# Altium footprint library MicroSMD_50P_V.PcbLib: 85 footprints (part 3 of 7)
Each footprint in its own frame and in the unit in brackets; x right, y up, seen from the top. Pads: shape width x height; smd on the part's side, far side on the other; paste and mask are expansions set on the pad; w line width, h text height; cw(c..) or ccw(c..) is an arc to the next point about the centre after c.
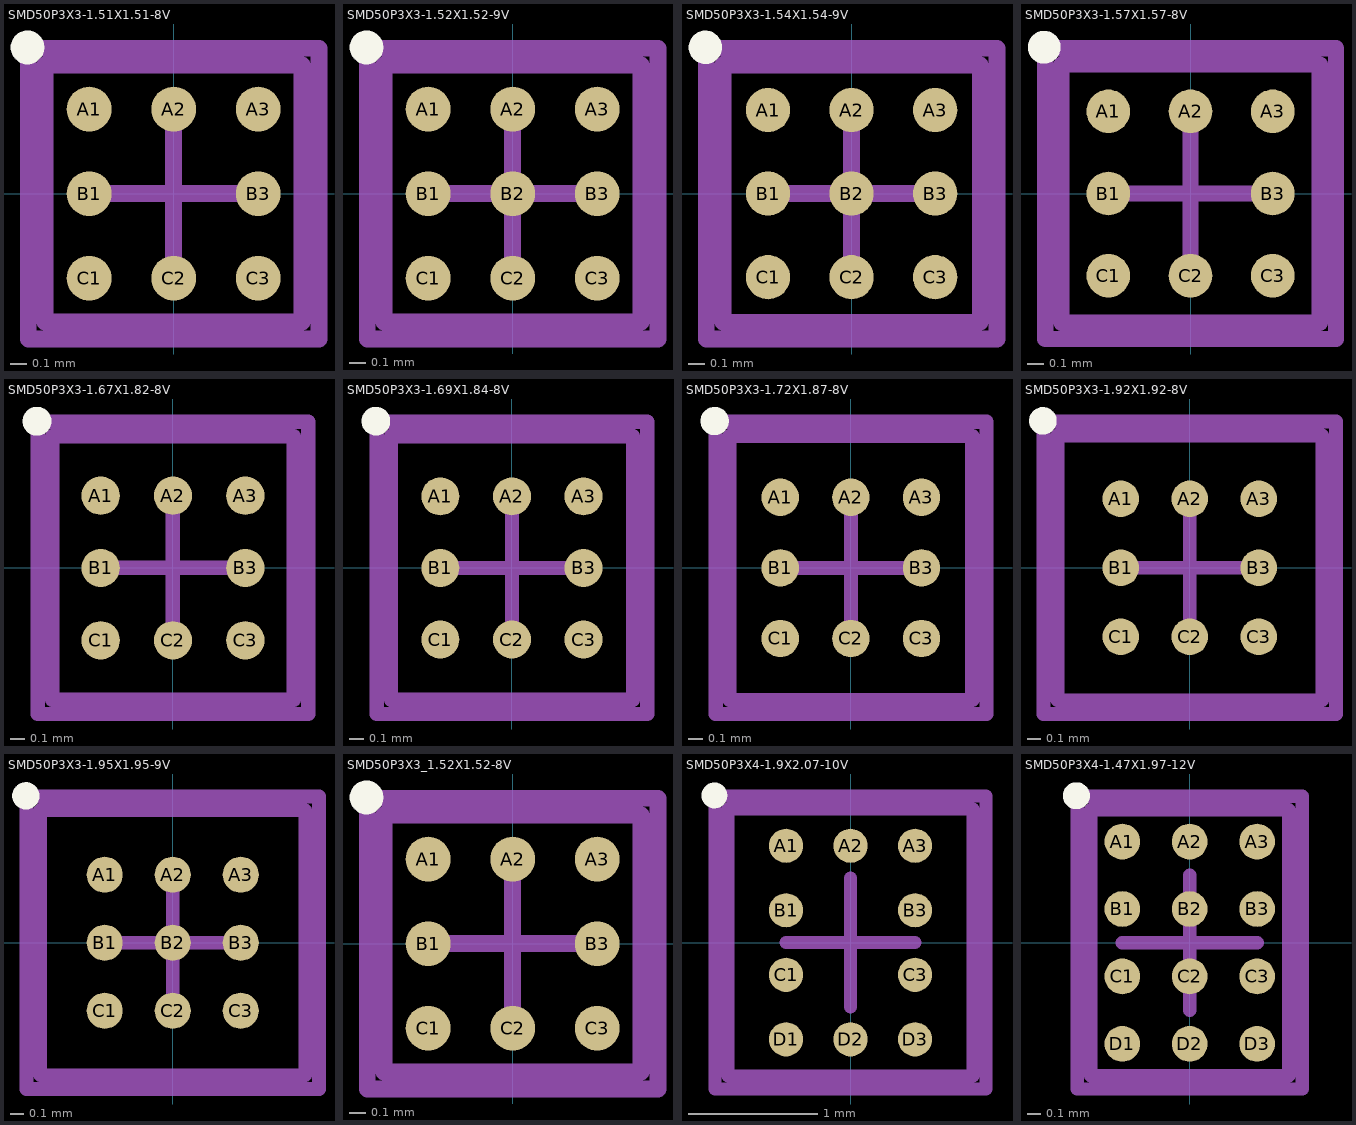
[diagram p2: the footprints below, top view; thin cyan lines are the x and y axes]

## SMD50P3X3-1.51X1.51-8V [mm] "Micro SMD, 8-Leads, Body 1.51x1.51mm, Pitch 0.5mm, NSC Recommended"
height 1.1
pads (8):
  round 0.265 smd paste-0.132 mask+0.05: A1(-0.5,0.5) A2(0,0.5) A3(0.5,0.5) B1(-0.5,0) B3(0.5,0) C1(-0.5,-0.5) C2(0,-0.5) C3(0.5,-0.5)
Top Overlay:
  circle w0.1: c-0.865,0.865 r0.05
Top Paste:
  circle w0.05: c-0.075,0.6 r0.025
  circle w0.05: c0.075,0.45 r0.025
  circle w0.05: c0.075,0.6 r0.025
  circle w0.05: c-0.075,0.45 r0.025
  circle w0.05: c0.6,0.075 r0.025
  circle w0.05: c0.45,-0.075 r0.025
  circle w0.05: c0.6,-0.075 r0.025
  circle w0.05: c0.45,0.075 r0.025
  circle w0.05: c0.075,-0.6 r0.025
  circle w0.05: c-0.075,-0.45 r0.025
  circle w0.05: c-0.075,-0.6 r0.025
  circle w0.05: c0.075,-0.45 r0.025
  circle w0.05: c-0.6,-0.075 r0.025
  circle w0.05: c-0.45,0.075 r0.025
  circle w0.05: c-0.6,0.075 r0.025
  circle w0.05: c-0.45,-0.075 r0.025
  circle w0.05: c0.45,0.45 r0.025
  circle w0.05: c0.6,0.6 r0.025
  circle w0.05: c0.6,0.45 r0.025
  circle w0.05: c0.45,0.6 r0.025
  circle w0.05: c0.45,-0.45 r0.025
  circle w0.05: c0.6,-0.6 r0.025
  circle w0.05: c0.45,-0.6 r0.025
  circle w0.05: c0.6,-0.45 r0.025
  circle w0.05: c-0.45,-0.45 r0.025
  circle w0.05: c-0.6,-0.6 r0.025
  circle w0.05: c-0.6,-0.45 r0.025
  circle w0.05: c-0.45,-0.6 r0.025
  circle w0.05: c-0.45,0.45 r0.025
  circle w0.05: c-0.6,0.6 r0.025
  circle w0.05: c-0.45,0.6 r0.025
  circle w0.05: c-0.6,0.45 r0.025
  region: 0.075,0.45 -0.075,0.45 -0.075,0.4 0.075,0.4
  region: 0.075,0.6 0.075,0.45 0.125,0.45 0.125,0.6
  rectangle: -0.075,0.6 0.075,0.65
  region: -0.075,0.45 -0.075,0.6 -0.125,0.6 -0.125,0.45
  region: -0.075,0.6 -0.075,0.45 0.075,0.45 0.075,0.6
  region: 0.45,-0.075 0.45,0.075 0.4,0.075 0.4,-0.075
  region: 0.6,-0.075 0.45,-0.075 0.45,-0.125 0.6,-0.125
  region: 0.6,0.075 0.6,-0.075 0.65,-0.075 0.65,0.075
  rectangle: 0.45,0.075 0.6,0.125
  region: 0.6,0.075 0.45,0.075 0.45,-0.075 0.6,-0.075
  rectangle: -0.075,-0.45 0.075,-0.4
  region: -0.075,-0.6 -0.075,-0.45 -0.125,-0.45 -0.125,-0.6
  region: 0.075,-0.6 -0.075,-0.6 -0.075,-0.65 0.075,-0.65
  region: 0.075,-0.45 0.075,-0.6 0.125,-0.6 0.125,-0.45
  region: 0.075,-0.6 0.075,-0.45 -0.075,-0.45 -0.075,-0.6
  region: -0.45,0.075 -0.45,-0.075 -0.4,-0.075 -0.4,0.075
  rectangle: -0.6,0.075 -0.45,0.125
  region: -0.6,-0.075 -0.6,0.075 -0.65,0.075 -0.65,-0.075
  region: -0.45,-0.075 -0.6,-0.075 -0.6,-0.125 -0.45,-0.125
  rectangle: -0.6,-0.075 -0.45,0.075
  region: 0.45,0.6 0.45,0.45 0.6,0.45 0.6,0.6
  region: 0.45,0.45 0.45,0.6 0.4,0.6 0.4,0.45
  rectangle: 0.45,0.6 0.6,0.65
  region: 0.6,0.6 0.6,0.45 0.65,0.45 0.65,0.6
  region: 0.6,0.45 0.45,0.45 0.45,0.4 0.6,0.4
  region: 0.6,-0.45 0.45,-0.45 0.45,-0.6 0.6,-0.6
  rectangle: 0.45,-0.45 0.6,-0.4
  region: 0.6,-0.45 0.6,-0.6 0.65,-0.6 0.65,-0.45
  region: 0.6,-0.6 0.45,-0.6 0.45,-0.65 0.6,-0.65
  region: 0.45,-0.6 0.45,-0.45 0.4,-0.45 0.4,-0.6
  region: -0.45,-0.6 -0.45,-0.45 -0.6,-0.45 -0.6,-0.6
  region: -0.45,-0.45 -0.45,-0.6 -0.4,-0.6 -0.4,-0.45
  region: -0.45,-0.6 -0.6,-0.6 -0.6,-0.65 -0.45,-0.65
  region: -0.6,-0.6 -0.6,-0.45 -0.65,-0.45 -0.65,-0.6
  rectangle: -0.6,-0.45 -0.45,-0.4
  rectangle: -0.6,0.45 -0.45,0.6
  region: -0.45,0.45 -0.6,0.45 -0.6,0.4 -0.45,0.4
  region: -0.6,0.45 -0.6,0.6 -0.65,0.6 -0.65,0.45
  rectangle: -0.6,0.6 -0.45,0.65
  region: -0.45,0.6 -0.45,0.45 -0.4,0.45 -0.4,0.6
Mechanical 13:
  lines w0.1: -0.76,-0.76 -0.76,0.76 0.76,0.76 0.76,-0.76 -0.76,-0.76
Mechanical 15:
  lines w0.1: -0.5,0 0.5,0 ; 0,-0.5 0,0.5 ; -0.86,-0.86 -0.86,0.86 0.86,0.86 0.86,-0.86 -0.86,-0.86
3D body: height 1.1, standoff 0, extent -0.759,-0.759 0.759,0.759

## SMD50P3X3-1.52X1.52-9V [mm] "Micro SMD, 9-Leads, Body 1.52x1.52mm, Pitch 0.5mm, NSC Recommended"
height 0.68
pads (9):
  round 0.265 smd paste-0.132 mask+0.05: A1(-0.5,0.5) A2(0,0.5) A3(0.5,0.5) B1(-0.5,0) B2(0,0) B3(0.5,0) C1(-0.5,-0.5) C2(0,-0.5) C3(0.5,-0.5)
Top Overlay:
  circle w0.1: c-0.865,0.865 r0.05
Top Paste:
  circle w0.05: c0.075,0.075 r0.025
  circle w0.05: c-0.075,-0.075 r0.025
  circle w0.05: c-0.075,0.075 r0.025
  circle w0.05: c0.075,-0.075 r0.025
  circle w0.05: c0.45,-0.45 r0.025
  circle w0.05: c0.6,-0.6 r0.025
  circle w0.05: c0.45,-0.6 r0.025
  circle w0.05: c0.6,-0.45 r0.025
  circle w0.05: c0.45,0.45 r0.025
  circle w0.05: c0.6,0.6 r0.025
  circle w0.05: c0.6,0.45 r0.025
  circle w0.05: c0.45,0.6 r0.025
  circle w0.05: c-0.45,0.45 r0.025
  circle w0.05: c-0.6,0.6 r0.025
  circle w0.05: c-0.45,0.6 r0.025
  circle w0.05: c-0.6,0.45 r0.025
  circle w0.05: c-0.45,-0.45 r0.025
  circle w0.05: c-0.6,-0.6 r0.025
  circle w0.05: c-0.6,-0.45 r0.025
  circle w0.05: c-0.45,-0.6 r0.025
  circle w0.05: c-0.45,-0.075 r0.025
  circle w0.05: c-0.6,0.075 r0.025
  circle w0.05: c-0.45,0.075 r0.025
  circle w0.05: c-0.6,-0.075 r0.025
  circle w0.05: c0.075,-0.45 r0.025
  circle w0.05: c-0.075,-0.6 r0.025
  circle w0.05: c-0.075,-0.45 r0.025
  circle w0.05: c0.075,-0.6 r0.025
  circle w0.05: c0.45,0.075 r0.025
  circle w0.05: c0.6,-0.075 r0.025
  circle w0.05: c0.45,-0.075 r0.025
  circle w0.05: c0.6,0.075 r0.025
  circle w0.05: c-0.075,0.45 r0.025
  circle w0.05: c0.075,0.6 r0.025
  circle w0.05: c0.075,0.45 r0.025
  circle w0.05: c-0.075,0.6 r0.025
  rectangle: -0.075,-0.125 0.075,-0.075
  region: -0.125,0.075 -0.125,-0.075 -0.075,-0.075 -0.075,0.075
  region: 0.075,0.125 -0.075,0.125 -0.075,0.075 0.075,0.075
  region: 0.125,-0.075 0.125,0.075 0.075,0.075 0.075,-0.075
  region: -0.075,0.075 -0.075,-0.075 0.075,-0.075 0.075,0.075
  region: 0.6,-0.45 0.45,-0.45 0.45,-0.6 0.6,-0.6
  rectangle: 0.45,-0.45 0.6,-0.4
  region: 0.6,-0.45 0.6,-0.6 0.65,-0.6 0.65,-0.45
  region: 0.6,-0.6 0.45,-0.6 0.45,-0.65 0.6,-0.65
  region: 0.45,-0.6 0.45,-0.45 0.4,-0.45 0.4,-0.6
  region: 0.45,0.6 0.45,0.45 0.6,0.45 0.6,0.6
  region: 0.45,0.45 0.45,0.6 0.4,0.6 0.4,0.45
  rectangle: 0.45,0.6 0.6,0.65
  region: 0.6,0.6 0.6,0.45 0.65,0.45 0.65,0.6
  region: 0.6,0.45 0.45,0.45 0.45,0.4 0.6,0.4
  rectangle: -0.6,0.45 -0.45,0.6
  region: -0.45,0.45 -0.6,0.45 -0.6,0.4 -0.45,0.4
  region: -0.6,0.45 -0.6,0.6 -0.65,0.6 -0.65,0.45
  rectangle: -0.6,0.6 -0.45,0.65
  region: -0.45,0.6 -0.45,0.45 -0.4,0.45 -0.4,0.6
  region: -0.45,-0.6 -0.45,-0.45 -0.6,-0.45 -0.6,-0.6
  region: -0.45,-0.45 -0.45,-0.6 -0.4,-0.6 -0.4,-0.45
  region: -0.45,-0.6 -0.6,-0.6 -0.6,-0.65 -0.45,-0.65
  region: -0.6,-0.6 -0.6,-0.45 -0.65,-0.45 -0.65,-0.6
  rectangle: -0.6,-0.45 -0.45,-0.4
  rectangle: -0.6,-0.075 -0.45,0.075
  region: -0.45,-0.075 -0.6,-0.075 -0.6,-0.125 -0.45,-0.125
  region: -0.6,-0.075 -0.6,0.075 -0.65,0.075 -0.65,-0.075
  rectangle: -0.6,0.075 -0.45,0.125
  region: -0.45,0.075 -0.45,-0.075 -0.4,-0.075 -0.4,0.075
  region: 0.075,-0.6 0.075,-0.45 -0.075,-0.45 -0.075,-0.6
  region: 0.075,-0.45 0.075,-0.6 0.125,-0.6 0.125,-0.45
  region: 0.075,-0.6 -0.075,-0.6 -0.075,-0.65 0.075,-0.65
  region: -0.075,-0.6 -0.075,-0.45 -0.125,-0.45 -0.125,-0.6
  rectangle: -0.075,-0.45 0.075,-0.4
  region: 0.6,0.075 0.45,0.075 0.45,-0.075 0.6,-0.075
  rectangle: 0.45,0.075 0.6,0.125
  region: 0.6,0.075 0.6,-0.075 0.65,-0.075 0.65,0.075
  region: 0.6,-0.075 0.45,-0.075 0.45,-0.125 0.6,-0.125
  region: 0.45,-0.075 0.45,0.075 0.4,0.075 0.4,-0.075
  region: -0.075,0.6 -0.075,0.45 0.075,0.45 0.075,0.6
  region: -0.075,0.45 -0.075,0.6 -0.125,0.6 -0.125,0.45
  rectangle: -0.075,0.6 0.075,0.65
  region: 0.075,0.6 0.075,0.45 0.125,0.45 0.125,0.6
  region: 0.075,0.45 -0.075,0.45 -0.075,0.4 0.075,0.4
Mechanical 13:
  lines w0.1: -0.76,-0.76 -0.76,0.76 0.76,0.76 0.76,-0.76 -0.76,-0.76
Mechanical 15:
  lines w0.1: -0.5,0 0.5,0 ; 0,-0.5 0,0.5 ; -0.86,-0.86 -0.86,0.86 0.86,0.86 0.86,-0.86 -0.86,-0.86
3D body: height 0.68, standoff 0, extent -0.759,-0.759 0.759,0.759

## SMD50P3X3-1.54X1.54-9V [mm] "Micro SMD, 9-Leads, Body 1.54x1.54mm, Pitch 0.5mm, NSC Recommended"
height 0.68
pads (9):
  round 0.265 smd paste-0.132 mask+0.05: A1(-0.5,0.5) A2(0,0.5) A3(0.5,0.5) B1(-0.5,0) B2(0,0) B3(0.5,0) C1(-0.5,-0.5) C2(0,-0.5) C3(0.5,-0.5)
Top Overlay:
  circle w0.1: c-0.875,0.875 r0.05
Top Paste:
  circle w0.05: c-0.6,0.45 r0.025
  circle w0.05: c-0.45,0.6 r0.025
  circle w0.05: c-0.45,0.45 r0.025
  circle w0.05: c-0.6,0.6 r0.025
  circle w0.05: c-0.075,0.45 r0.025
  circle w0.05: c0.075,0.6 r0.025
  circle w0.05: c0.075,0.45 r0.025
  circle w0.05: c-0.075,0.6 r0.025
  circle w0.05: c0.45,0.45 r0.025
  circle w0.05: c0.6,0.6 r0.025
  circle w0.05: c0.6,0.45 r0.025
  circle w0.05: c0.45,0.6 r0.025
  circle w0.05: c-0.6,-0.075 r0.025
  circle w0.05: c-0.45,0.075 r0.025
  circle w0.05: c-0.45,-0.075 r0.025
  circle w0.05: c-0.6,0.075 r0.025
  circle w0.05: c-0.075,-0.075 r0.025
  circle w0.05: c0.075,0.075 r0.025
  circle w0.05: c0.075,-0.075 r0.025
  circle w0.05: c-0.075,0.075 r0.025
  circle w0.05: c0.45,-0.075 r0.025
  circle w0.05: c0.6,0.075 r0.025
  circle w0.05: c0.6,-0.075 r0.025
  circle w0.05: c0.45,0.075 r0.025
  circle w0.05: c-0.6,-0.6 r0.025
  circle w0.05: c-0.45,-0.45 r0.025
  circle w0.05: c-0.45,-0.6 r0.025
  circle w0.05: c-0.6,-0.45 r0.025
  circle w0.05: c-0.075,-0.6 r0.025
  circle w0.05: c0.075,-0.45 r0.025
  circle w0.05: c0.075,-0.6 r0.025
  circle w0.05: c-0.075,-0.45 r0.025
  circle w0.05: c0.45,-0.6 r0.025
  circle w0.05: c0.6,-0.45 r0.025
  circle w0.05: c0.6,-0.6 r0.025
  circle w0.05: c0.45,-0.45 r0.025
  region: -0.6,0.6 -0.6,0.45 -0.45,0.45 -0.45,0.6
  region: -0.6,0.45 -0.6,0.6 -0.65,0.6 -0.65,0.45
  rectangle: -0.6,0.6 -0.45,0.65
  region: -0.45,0.6 -0.45,0.45 -0.4,0.45 -0.4,0.6
  region: -0.45,0.45 -0.6,0.45 -0.6,0.4 -0.45,0.4
  region: -0.075,0.6 -0.075,0.45 0.075,0.45 0.075,0.6
  region: -0.075,0.45 -0.075,0.6 -0.125,0.6 -0.125,0.45
  rectangle: -0.075,0.6 0.075,0.65
  region: 0.075,0.6 0.075,0.45 0.125,0.45 0.125,0.6
  region: 0.075,0.45 -0.075,0.45 -0.075,0.4 0.075,0.4
  region: 0.45,0.6 0.45,0.45 0.6,0.45 0.6,0.6
  region: 0.45,0.45 0.45,0.6 0.4,0.6 0.4,0.45
  rectangle: 0.45,0.6 0.6,0.65
  region: 0.6,0.6 0.6,0.45 0.65,0.45 0.65,0.6
  region: 0.6,0.45 0.45,0.45 0.45,0.4 0.6,0.4
  region: -0.6,0.075 -0.6,-0.075 -0.45,-0.075 -0.45,0.075
  region: -0.6,-0.075 -0.6,0.075 -0.65,0.075 -0.65,-0.075
  rectangle: -0.6,0.075 -0.45,0.125
  region: -0.45,0.075 -0.45,-0.075 -0.4,-0.075 -0.4,0.075
  region: -0.45,-0.075 -0.6,-0.075 -0.6,-0.125 -0.45,-0.125
  region: -0.075,0.075 -0.075,-0.075 0.075,-0.075 0.075,0.075
  region: -0.075,-0.075 -0.075,0.075 -0.125,0.075 -0.125,-0.075
  rectangle: -0.075,0.075 0.075,0.125
  region: 0.075,0.075 0.075,-0.075 0.125,-0.075 0.125,0.075
  region: 0.075,-0.075 -0.075,-0.075 -0.075,-0.125 0.075,-0.125
  region: 0.45,0.075 0.45,-0.075 0.6,-0.075 0.6,0.075
  region: 0.45,-0.075 0.45,0.075 0.4,0.075 0.4,-0.075
  rectangle: 0.45,0.075 0.6,0.125
  region: 0.6,0.075 0.6,-0.075 0.65,-0.075 0.65,0.075
  region: 0.6,-0.075 0.45,-0.075 0.45,-0.125 0.6,-0.125
  region: -0.6,-0.45 -0.6,-0.6 -0.45,-0.6 -0.45,-0.45
  region: -0.6,-0.6 -0.6,-0.45 -0.65,-0.45 -0.65,-0.6
  rectangle: -0.6,-0.45 -0.45,-0.4
  region: -0.45,-0.45 -0.45,-0.6 -0.4,-0.6 -0.4,-0.45
  region: -0.45,-0.6 -0.6,-0.6 -0.6,-0.65 -0.45,-0.65
  region: -0.075,-0.45 -0.075,-0.6 0.075,-0.6 0.075,-0.45
  region: -0.075,-0.6 -0.075,-0.45 -0.125,-0.45 -0.125,-0.6
  rectangle: -0.075,-0.45 0.075,-0.4
  region: 0.075,-0.45 0.075,-0.6 0.125,-0.6 0.125,-0.45
  region: 0.075,-0.6 -0.075,-0.6 -0.075,-0.65 0.075,-0.65
  region: 0.45,-0.45 0.45,-0.6 0.6,-0.6 0.6,-0.45
  region: 0.45,-0.6 0.45,-0.45 0.4,-0.45 0.4,-0.6
  rectangle: 0.45,-0.45 0.6,-0.4
  region: 0.6,-0.45 0.6,-0.6 0.65,-0.6 0.65,-0.45
  region: 0.6,-0.6 0.45,-0.6 0.45,-0.65 0.6,-0.65
Mechanical 13:
  lines w0.1: -0.77,-0.77 -0.77,0.77 0.77,0.77 0.77,-0.77 -0.77,-0.77
Mechanical 15:
  lines w0.1: -0.5,0 0.5,0 ; 0,-0.5 0,0.5 ; -0.87,-0.87 -0.87,0.87 0.87,0.87 0.87,-0.87 -0.87,-0.87
3D body: height 0.68, standoff 0, extent -0.77,-0.77 0.77,0.77

## SMD50P3X3-1.57X1.57-8V [mm] "Micro SMD, 8-Leads, Body 1.57x1.57mm, Pitch 0.5mm, NSC Recommended"
height 0.68
pads (8):
  round 0.265 smd paste-0.132 mask+0.05: A1(-0.5,0.5) A2(0,0.5) A3(0.5,0.5) B1(-0.5,0) B3(0.5,0) C1(-0.5,-0.5) C2(0,-0.5) C3(0.5,-0.5)
Top Overlay:
  circle w0.1: c-0.89,0.89 r0.05
Top Paste:
  circle w0.05: c-0.075,0.6 r0.025
  circle w0.05: c0.075,0.45 r0.025
  circle w0.05: c0.075,0.6 r0.025
  circle w0.05: c-0.075,0.45 r0.025
  circle w0.05: c0.6,0.075 r0.025
  circle w0.05: c0.45,-0.075 r0.025
  circle w0.05: c0.6,-0.075 r0.025
  circle w0.05: c0.45,0.075 r0.025
  circle w0.05: c0.075,-0.6 r0.025
  circle w0.05: c-0.075,-0.45 r0.025
  circle w0.05: c-0.075,-0.6 r0.025
  circle w0.05: c0.075,-0.45 r0.025
  circle w0.05: c-0.6,-0.075 r0.025
  circle w0.05: c-0.45,0.075 r0.025
  circle w0.05: c-0.6,0.075 r0.025
  circle w0.05: c-0.45,-0.075 r0.025
  circle w0.05: c0.45,0.45 r0.025
  circle w0.05: c0.6,0.6 r0.025
  circle w0.05: c0.6,0.45 r0.025
  circle w0.05: c0.45,0.6 r0.025
  circle w0.05: c0.45,-0.45 r0.025
  circle w0.05: c0.6,-0.6 r0.025
  circle w0.05: c0.45,-0.6 r0.025
  circle w0.05: c0.6,-0.45 r0.025
  circle w0.05: c-0.45,-0.45 r0.025
  circle w0.05: c-0.6,-0.6 r0.025
  circle w0.05: c-0.6,-0.45 r0.025
  circle w0.05: c-0.45,-0.6 r0.025
  circle w0.05: c-0.45,0.45 r0.025
  circle w0.05: c-0.6,0.6 r0.025
  circle w0.05: c-0.45,0.6 r0.025
  circle w0.05: c-0.6,0.45 r0.025
  region: 0.075,0.45 -0.075,0.45 -0.075,0.4 0.075,0.4
  region: 0.075,0.6 0.075,0.45 0.125,0.45 0.125,0.6
  rectangle: -0.075,0.6 0.075,0.65
  region: -0.075,0.45 -0.075,0.6 -0.125,0.6 -0.125,0.45
  region: -0.075,0.6 -0.075,0.45 0.075,0.45 0.075,0.6
  region: 0.45,-0.075 0.45,0.075 0.4,0.075 0.4,-0.075
  region: 0.6,-0.075 0.45,-0.075 0.45,-0.125 0.6,-0.125
  region: 0.6,0.075 0.6,-0.075 0.65,-0.075 0.65,0.075
  rectangle: 0.45,0.075 0.6,0.125
  region: 0.6,0.075 0.45,0.075 0.45,-0.075 0.6,-0.075
  rectangle: -0.075,-0.45 0.075,-0.4
  region: -0.075,-0.6 -0.075,-0.45 -0.125,-0.45 -0.125,-0.6
  region: 0.075,-0.6 -0.075,-0.6 -0.075,-0.65 0.075,-0.65
  region: 0.075,-0.45 0.075,-0.6 0.125,-0.6 0.125,-0.45
  region: 0.075,-0.6 0.075,-0.45 -0.075,-0.45 -0.075,-0.6
  region: -0.45,0.075 -0.45,-0.075 -0.4,-0.075 -0.4,0.075
  rectangle: -0.6,0.075 -0.45,0.125
  region: -0.6,-0.075 -0.6,0.075 -0.65,0.075 -0.65,-0.075
  region: -0.45,-0.075 -0.6,-0.075 -0.6,-0.125 -0.45,-0.125
  rectangle: -0.6,-0.075 -0.45,0.075
  region: 0.45,0.6 0.45,0.45 0.6,0.45 0.6,0.6
  region: 0.45,0.45 0.45,0.6 0.4,0.6 0.4,0.45
  rectangle: 0.45,0.6 0.6,0.65
  region: 0.6,0.6 0.6,0.45 0.65,0.45 0.65,0.6
  region: 0.6,0.45 0.45,0.45 0.45,0.4 0.6,0.4
  region: 0.6,-0.45 0.45,-0.45 0.45,-0.6 0.6,-0.6
  rectangle: 0.45,-0.45 0.6,-0.4
  region: 0.6,-0.45 0.6,-0.6 0.65,-0.6 0.65,-0.45
  region: 0.6,-0.6 0.45,-0.6 0.45,-0.65 0.6,-0.65
  region: 0.45,-0.6 0.45,-0.45 0.4,-0.45 0.4,-0.6
  region: -0.45,-0.6 -0.45,-0.45 -0.6,-0.45 -0.6,-0.6
  region: -0.45,-0.45 -0.45,-0.6 -0.4,-0.6 -0.4,-0.45
  region: -0.45,-0.6 -0.6,-0.6 -0.6,-0.65 -0.45,-0.65
  region: -0.6,-0.6 -0.6,-0.45 -0.65,-0.45 -0.65,-0.6
  rectangle: -0.6,-0.45 -0.45,-0.4
  rectangle: -0.6,0.45 -0.45,0.6
  region: -0.45,0.45 -0.6,0.45 -0.6,0.4 -0.45,0.4
  region: -0.6,0.45 -0.6,0.6 -0.65,0.6 -0.65,0.45
  rectangle: -0.6,0.6 -0.45,0.65
  region: -0.45,0.6 -0.45,0.45 -0.4,0.45 -0.4,0.6
Mechanical 13:
  lines w0.1: -0.785,-0.785 0.785,-0.785 0.785,0.785 -0.785,0.785 -0.785,-0.785
Mechanical 15:
  lines w0.1: -0.5,0 0.5,0 ; 0,-0.5 0,0.5 ; -0.885,-0.885 0.885,-0.885 0.885,0.885 -0.885,0.885 -0.885,-0.885
3D body: height 0.68, standoff 0, extent -0.784,-0.784 0.784,0.784

## SMD50P3X3-1.67X1.82-8V [mm] "Micro SMD, 8-Leads, Body 1.82x1.67mm, Pitch 0.5mm, NSC Recommended"
height 0.68
pads (8):
  round 0.265 smd paste-0.132 mask+0.05: A1(-0.5,0.5) A2(0,0.5) A3(0.5,0.5) B1(-0.5,0) B3(0.5,0) C1(-0.5,-0.5) C2(0,-0.5) C3(0.5,-0.5)
Top Overlay:
  circle w0.1: c-0.94,1.015 r0.05
Top Paste:
  circle w0.05: c-0.6,0.45 r0.025
  circle w0.05: c-0.45,0.6 r0.025
  circle w0.05: c-0.45,0.45 r0.025
  circle w0.05: c-0.6,0.6 r0.025
  circle w0.05: c-0.075,0.45 r0.025
  circle w0.05: c0.075,0.6 r0.025
  circle w0.05: c0.075,0.45 r0.025
  circle w0.05: c-0.075,0.6 r0.025
  circle w0.05: c0.45,0.45 r0.025
  circle w0.05: c0.6,0.6 r0.025
  circle w0.05: c0.6,0.45 r0.025
  circle w0.05: c0.45,0.6 r0.025
  circle w0.05: c-0.6,-0.075 r0.025
  circle w0.05: c-0.45,0.075 r0.025
  circle w0.05: c-0.45,-0.075 r0.025
  circle w0.05: c-0.6,0.075 r0.025
  circle w0.05: c0.45,-0.075 r0.025
  circle w0.05: c0.6,0.075 r0.025
  circle w0.05: c0.6,-0.075 r0.025
  circle w0.05: c0.45,0.075 r0.025
  circle w0.05: c-0.6,-0.6 r0.025
  circle w0.05: c-0.45,-0.45 r0.025
  circle w0.05: c-0.45,-0.6 r0.025
  circle w0.05: c-0.6,-0.45 r0.025
  circle w0.05: c-0.075,-0.6 r0.025
  circle w0.05: c0.075,-0.45 r0.025
  circle w0.05: c0.075,-0.6 r0.025
  circle w0.05: c-0.075,-0.45 r0.025
  circle w0.05: c0.45,-0.6 r0.025
  circle w0.05: c0.6,-0.45 r0.025
  circle w0.05: c0.6,-0.6 r0.025
  circle w0.05: c0.45,-0.45 r0.025
  region: -0.6,0.6 -0.6,0.45 -0.45,0.45 -0.45,0.6
  region: -0.6,0.45 -0.6,0.6 -0.65,0.6 -0.65,0.45
  rectangle: -0.6,0.6 -0.45,0.65
  region: -0.45,0.6 -0.45,0.45 -0.4,0.45 -0.4,0.6
  region: -0.45,0.45 -0.6,0.45 -0.6,0.4 -0.45,0.4
  region: -0.075,0.6 -0.075,0.45 0.075,0.45 0.075,0.6
  region: -0.075,0.45 -0.075,0.6 -0.125,0.6 -0.125,0.45
  rectangle: -0.075,0.6 0.075,0.65
  region: 0.075,0.6 0.075,0.45 0.125,0.45 0.125,0.6
  region: 0.075,0.45 -0.075,0.45 -0.075,0.4 0.075,0.4
  region: 0.45,0.6 0.45,0.45 0.6,0.45 0.6,0.6
  region: 0.45,0.45 0.45,0.6 0.4,0.6 0.4,0.45
  rectangle: 0.45,0.6 0.6,0.65
  region: 0.6,0.6 0.6,0.45 0.65,0.45 0.65,0.6
  region: 0.6,0.45 0.45,0.45 0.45,0.4 0.6,0.4
  region: -0.6,0.075 -0.6,-0.075 -0.45,-0.075 -0.45,0.075
  region: -0.6,-0.075 -0.6,0.075 -0.65,0.075 -0.65,-0.075
  rectangle: -0.6,0.075 -0.45,0.125
  region: -0.45,0.075 -0.45,-0.075 -0.4,-0.075 -0.4,0.075
  region: -0.45,-0.075 -0.6,-0.075 -0.6,-0.125 -0.45,-0.125
  region: 0.45,0.075 0.45,-0.075 0.6,-0.075 0.6,0.075
  region: 0.45,-0.075 0.45,0.075 0.4,0.075 0.4,-0.075
  rectangle: 0.45,0.075 0.6,0.125
  region: 0.6,0.075 0.6,-0.075 0.65,-0.075 0.65,0.075
  region: 0.6,-0.075 0.45,-0.075 0.45,-0.125 0.6,-0.125
  region: -0.6,-0.45 -0.6,-0.6 -0.45,-0.6 -0.45,-0.45
  region: -0.6,-0.6 -0.6,-0.45 -0.65,-0.45 -0.65,-0.6
  rectangle: -0.6,-0.45 -0.45,-0.4
  region: -0.45,-0.45 -0.45,-0.6 -0.4,-0.6 -0.4,-0.45
  region: -0.45,-0.6 -0.6,-0.6 -0.6,-0.65 -0.45,-0.65
  region: -0.075,-0.45 -0.075,-0.6 0.075,-0.6 0.075,-0.45
  region: -0.075,-0.6 -0.075,-0.45 -0.125,-0.45 -0.125,-0.6
  rectangle: -0.075,-0.45 0.075,-0.4
  region: 0.075,-0.45 0.075,-0.6 0.125,-0.6 0.125,-0.45
  region: 0.075,-0.6 -0.075,-0.6 -0.075,-0.65 0.075,-0.65
  region: 0.45,-0.45 0.45,-0.6 0.6,-0.6 0.6,-0.45
  region: 0.45,-0.6 0.45,-0.45 0.4,-0.45 0.4,-0.6
  rectangle: 0.45,-0.45 0.6,-0.4
  region: 0.6,-0.45 0.6,-0.6 0.65,-0.6 0.65,-0.45
  region: 0.6,-0.6 0.45,-0.6 0.45,-0.65 0.6,-0.65
Mechanical 13:
  lines w0.1: -0.835,-0.91 -0.835,0.91 0.835,0.91 0.835,-0.91 -0.835,-0.91
Mechanical 15:
  lines w0.1: -0.5,0 0.5,0 ; 0,-0.5 0,0.5 ; -0.935,-1.01 -0.935,1.01 0.935,1.01 0.935,-1.01 -0.935,-1.01
3D body: height 0.68, standoff 0, extent -0.835,-0.91 0.835,0.91

## SMD50P3X3-1.69X1.84-8V [mm] "Micro SMD, 8-Leads, Body 1.84x1.69mm, Pitch 0.5mm, NSC Recommended"
height 0.68
pads (8):
  round 0.265 smd paste-0.132 mask+0.05: A1(-0.5,0.5) A2(0,0.5) A3(0.5,0.5) B1(-0.5,0) B3(0.5,0) C1(-0.5,-0.5) C2(0,-0.5) C3(0.5,-0.5)
Top Overlay:
  circle w0.1: c-0.95,1.025 r0.05
Top Paste:
  circle w0.05: c0.45,-0.45 r0.025
  circle w0.05: c0.6,-0.6 r0.025
  circle w0.05: c0.6,-0.45 r0.025
  circle w0.05: c0.45,-0.6 r0.025
  circle w0.05: c-0.075,-0.45 r0.025
  circle w0.05: c0.075,-0.6 r0.025
  circle w0.05: c0.075,-0.45 r0.025
  circle w0.05: c-0.075,-0.6 r0.025
  circle w0.05: c-0.6,-0.45 r0.025
  circle w0.05: c-0.45,-0.6 r0.025
  circle w0.05: c-0.45,-0.45 r0.025
  circle w0.05: c-0.6,-0.6 r0.025
  circle w0.05: c0.45,0.075 r0.025
  circle w0.05: c0.6,-0.075 r0.025
  circle w0.05: c0.6,0.075 r0.025
  circle w0.05: c0.45,-0.075 r0.025
  circle w0.05: c-0.6,0.075 r0.025
  circle w0.05: c-0.45,-0.075 r0.025
  circle w0.05: c-0.45,0.075 r0.025
  circle w0.05: c-0.6,-0.075 r0.025
  circle w0.05: c0.45,0.6 r0.025
  circle w0.05: c0.6,0.45 r0.025
  circle w0.05: c0.6,0.6 r0.025
  circle w0.05: c0.45,0.45 r0.025
  circle w0.05: c-0.075,0.6 r0.025
  circle w0.05: c0.075,0.45 r0.025
  circle w0.05: c0.075,0.6 r0.025
  circle w0.05: c-0.075,0.45 r0.025
  circle w0.05: c-0.6,0.6 r0.025
  circle w0.05: c-0.45,0.45 r0.025
  circle w0.05: c-0.45,0.6 r0.025
  circle w0.05: c-0.6,0.45 r0.025
  region: 0.6,-0.6 0.45,-0.6 0.45,-0.65 0.6,-0.65
  region: 0.6,-0.45 0.6,-0.6 0.65,-0.6 0.65,-0.45
  rectangle: 0.45,-0.45 0.6,-0.4
  region: 0.45,-0.6 0.45,-0.45 0.4,-0.45 0.4,-0.6
  region: 0.45,-0.45 0.45,-0.6 0.6,-0.6 0.6,-0.45
  region: 0.075,-0.6 -0.075,-0.6 -0.075,-0.65 0.075,-0.65
  region: 0.075,-0.45 0.075,-0.6 0.125,-0.6 0.125,-0.45
  rectangle: -0.075,-0.45 0.075,-0.4
  region: -0.075,-0.6 -0.075,-0.45 -0.125,-0.45 -0.125,-0.6
  region: -0.075,-0.45 -0.075,-0.6 0.075,-0.6 0.075,-0.45
  region: -0.45,-0.6 -0.6,-0.6 -0.6,-0.65 -0.45,-0.65
  region: -0.45,-0.45 -0.45,-0.6 -0.4,-0.6 -0.4,-0.45
  rectangle: -0.6,-0.45 -0.45,-0.4
  region: -0.6,-0.6 -0.6,-0.45 -0.65,-0.45 -0.65,-0.6
  region: -0.6,-0.45 -0.6,-0.6 -0.45,-0.6 -0.45,-0.45
  region: 0.6,-0.075 0.45,-0.075 0.45,-0.125 0.6,-0.125
  region: 0.6,0.075 0.6,-0.075 0.65,-0.075 0.65,0.075
  rectangle: 0.45,0.075 0.6,0.125
  region: 0.45,-0.075 0.45,0.075 0.4,0.075 0.4,-0.075
  region: 0.45,0.075 0.45,-0.075 0.6,-0.075 0.6,0.075
  region: -0.45,-0.075 -0.6,-0.075 -0.6,-0.125 -0.45,-0.125
  region: -0.45,0.075 -0.45,-0.075 -0.4,-0.075 -0.4,0.075
  rectangle: -0.6,0.075 -0.45,0.125
  region: -0.6,-0.075 -0.6,0.075 -0.65,0.075 -0.65,-0.075
  region: -0.6,0.075 -0.6,-0.075 -0.45,-0.075 -0.45,0.075
  region: 0.6,0.45 0.45,0.45 0.45,0.4 0.6,0.4
  region: 0.6,0.6 0.6,0.45 0.65,0.45 0.65,0.6
  rectangle: 0.45,0.6 0.6,0.65
  region: 0.45,0.45 0.45,0.6 0.4,0.6 0.4,0.45
  region: 0.45,0.6 0.45,0.45 0.6,0.45 0.6,0.6
  region: 0.075,0.45 -0.075,0.45 -0.075,0.4 0.075,0.4
  region: 0.075,0.6 0.075,0.45 0.125,0.45 0.125,0.6
  rectangle: -0.075,0.6 0.075,0.65
  region: -0.075,0.45 -0.075,0.6 -0.125,0.6 -0.125,0.45
  region: -0.075,0.6 -0.075,0.45 0.075,0.45 0.075,0.6
  region: -0.45,0.45 -0.6,0.45 -0.6,0.4 -0.45,0.4
  region: -0.45,0.6 -0.45,0.45 -0.4,0.45 -0.4,0.6
  rectangle: -0.6,0.6 -0.45,0.65
  region: -0.6,0.45 -0.6,0.6 -0.65,0.6 -0.65,0.45
  region: -0.6,0.6 -0.6,0.45 -0.45,0.45 -0.45,0.6
Mechanical 13:
  lines w0.1: -0.845,-0.92 0.845,-0.92 0.845,0.92 -0.845,0.92 -0.845,-0.92
Mechanical 15:
  lines w0.1: -0.5,0 0.5,0 ; 0,-0.5 0,0.5 ; -0.945,-1.02 0.945,-1.02 0.945,1.02 -0.945,1.02 -0.945,-1.02
3D body: height 0.68, standoff 0, extent -0.844,-0.919 0.844,0.919

## SMD50P3X3-1.72X1.87-8V [mm] "Micro SMD, 8-Leads, Body 1.87x1.72mm, Pitch 0.5mm, NSC Recommended"
height 0.68
pads (8):
  round 0.265 smd paste-0.132 mask+0.05: A1(-0.5,0.5) A2(0,0.5) A3(0.5,0.5) B1(-0.5,0) B3(0.5,0) C1(-0.5,-0.5) C2(0,-0.5) C3(0.5,-0.5)
Top Overlay:
  circle w0.1: c-0.965,1.04 r0.05
Top Paste:
  circle w0.05: c-0.6,-0.075 r0.025
  circle w0.05: c-0.45,0.075 r0.025
  circle w0.05: c-0.6,0.075 r0.025
  circle w0.05: c-0.45,-0.075 r0.025
  circle w0.05: c-0.075,0.6 r0.025
  circle w0.05: c0.075,0.45 r0.025
  circle w0.05: c0.075,0.6 r0.025
  circle w0.05: c-0.075,0.45 r0.025
  circle w0.05: c0.6,0.075 r0.025
  circle w0.05: c0.45,-0.075 r0.025
  circle w0.05: c0.6,-0.075 r0.025
  circle w0.05: c0.45,0.075 r0.025
  circle w0.05: c0.075,-0.6 r0.025
  circle w0.05: c-0.075,-0.45 r0.025
  circle w0.05: c-0.075,-0.6 r0.025
  circle w0.05: c0.075,-0.45 r0.025
  circle w0.05: c0.45,0.45 r0.025
  circle w0.05: c0.6,0.6 r0.025
  circle w0.05: c0.6,0.45 r0.025
  circle w0.05: c0.45,0.6 r0.025
  circle w0.05: c-0.45,0.45 r0.025
  circle w0.05: c-0.6,0.6 r0.025
  circle w0.05: c-0.45,0.6 r0.025
  circle w0.05: c-0.6,0.45 r0.025
  circle w0.05: c-0.45,-0.45 r0.025
  circle w0.05: c-0.6,-0.6 r0.025
  circle w0.05: c-0.6,-0.45 r0.025
  circle w0.05: c-0.45,-0.6 r0.025
  circle w0.05: c0.45,-0.45 r0.025
  circle w0.05: c0.6,-0.6 r0.025
  circle w0.05: c0.45,-0.6 r0.025
  circle w0.05: c0.6,-0.45 r0.025
  region: -0.45,0.075 -0.45,-0.075 -0.4,-0.075 -0.4,0.075
  rectangle: -0.6,0.075 -0.45,0.125
  region: -0.6,-0.075 -0.6,0.075 -0.65,0.075 -0.65,-0.075
  region: -0.45,-0.075 -0.6,-0.075 -0.6,-0.125 -0.45,-0.125
  rectangle: -0.6,-0.075 -0.45,0.075
  region: 0.075,0.45 -0.075,0.45 -0.075,0.4 0.075,0.4
  region: 0.075,0.6 0.075,0.45 0.125,0.45 0.125,0.6
  rectangle: -0.075,0.6 0.075,0.65
  region: -0.075,0.45 -0.075,0.6 -0.125,0.6 -0.125,0.45
  region: -0.075,0.6 -0.075,0.45 0.075,0.45 0.075,0.6
  region: 0.45,-0.075 0.45,0.075 0.4,0.075 0.4,-0.075
  region: 0.6,-0.075 0.45,-0.075 0.45,-0.125 0.6,-0.125
  region: 0.6,0.075 0.6,-0.075 0.65,-0.075 0.65,0.075
  rectangle: 0.45,0.075 0.6,0.125
  region: 0.6,0.075 0.45,0.075 0.45,-0.075 0.6,-0.075
  rectangle: -0.075,-0.45 0.075,-0.4
  region: -0.075,-0.6 -0.075,-0.45 -0.125,-0.45 -0.125,-0.6
  region: 0.075,-0.6 -0.075,-0.6 -0.075,-0.65 0.075,-0.65
  region: 0.075,-0.45 0.075,-0.6 0.125,-0.6 0.125,-0.45
  region: 0.075,-0.6 0.075,-0.45 -0.075,-0.45 -0.075,-0.6
  region: 0.45,0.6 0.45,0.45 0.6,0.45 0.6,0.6
  region: 0.45,0.45 0.45,0.6 0.4,0.6 0.4,0.45
  rectangle: 0.45,0.6 0.6,0.65
  region: 0.6,0.6 0.6,0.45 0.65,0.45 0.65,0.6
  region: 0.6,0.45 0.45,0.45 0.45,0.4 0.6,0.4
  rectangle: -0.6,0.45 -0.45,0.6
  region: -0.45,0.45 -0.6,0.45 -0.6,0.4 -0.45,0.4
  region: -0.6,0.45 -0.6,0.6 -0.65,0.6 -0.65,0.45
  rectangle: -0.6,0.6 -0.45,0.65
  region: -0.45,0.6 -0.45,0.45 -0.4,0.45 -0.4,0.6
  region: -0.45,-0.6 -0.45,-0.45 -0.6,-0.45 -0.6,-0.6
  region: -0.45,-0.45 -0.45,-0.6 -0.4,-0.6 -0.4,-0.45
  region: -0.45,-0.6 -0.6,-0.6 -0.6,-0.65 -0.45,-0.65
  region: -0.6,-0.6 -0.6,-0.45 -0.65,-0.45 -0.65,-0.6
  rectangle: -0.6,-0.45 -0.45,-0.4
  region: 0.6,-0.45 0.45,-0.45 0.45,-0.6 0.6,-0.6
  rectangle: 0.45,-0.45 0.6,-0.4
  region: 0.6,-0.45 0.6,-0.6 0.65,-0.6 0.65,-0.45
  region: 0.6,-0.6 0.45,-0.6 0.45,-0.65 0.6,-0.65
  region: 0.45,-0.6 0.45,-0.45 0.4,-0.45 0.4,-0.6
Mechanical 13:
  lines w0.1: -0.86,-0.935 0.86,-0.935 0.86,0.935 -0.86,0.935 -0.86,-0.935
Mechanical 15:
  lines w0.1: -0.96,-1.035 0.96,-1.035 0.96,1.035 -0.96,1.035 -0.958,-1.035 ; -0.5,0 0.5,0 ; 0,-0.5 0,0.5
3D body: height 0.68, standoff 0, extent -0.859,-0.934 0.859,0.934

## SMD50P3X3-1.92X1.92-8V [mm] "Micro SMD, 8-Leads, Body 1.92x1.92mm, Pitch 0.5mm, NSC Recommended"
height 0.68
pads (8):
  round 0.265 smd paste-0.132 mask+0.05: A1(-0.5,0.5) A2(0,0.5) A3(0.5,0.5) B1(-0.5,0) B3(0.5,0) C1(-0.5,-0.5) C2(0,-0.5) C3(0.5,-0.5)
Top Overlay:
  circle w0.1: c-1.065,1.065 r0.05
Top Paste:
  circle w0.05: c-0.6,0.45 r0.025
  circle w0.05: c-0.45,0.6 r0.025
  circle w0.05: c-0.45,0.45 r0.025
  circle w0.05: c-0.6,0.6 r0.025
  circle w0.05: c-0.075,0.45 r0.025
  circle w0.05: c0.075,0.6 r0.025
  circle w0.05: c0.075,0.45 r0.025
  circle w0.05: c-0.075,0.6 r0.025
  circle w0.05: c0.45,0.45 r0.025
  circle w0.05: c0.6,0.6 r0.025
  circle w0.05: c0.6,0.45 r0.025
  circle w0.05: c0.45,0.6 r0.025
  circle w0.05: c-0.6,-0.075 r0.025
  circle w0.05: c-0.45,0.075 r0.025
  circle w0.05: c-0.45,-0.075 r0.025
  circle w0.05: c-0.6,0.075 r0.025
  circle w0.05: c0.45,-0.075 r0.025
  circle w0.05: c0.6,0.075 r0.025
  circle w0.05: c0.6,-0.075 r0.025
  circle w0.05: c0.45,0.075 r0.025
  circle w0.05: c-0.6,-0.6 r0.025
  circle w0.05: c-0.45,-0.45 r0.025
  circle w0.05: c-0.45,-0.6 r0.025
  circle w0.05: c-0.6,-0.45 r0.025
  circle w0.05: c-0.075,-0.6 r0.025
  circle w0.05: c0.075,-0.45 r0.025
  circle w0.05: c0.075,-0.6 r0.025
  circle w0.05: c-0.075,-0.45 r0.025
  circle w0.05: c0.45,-0.6 r0.025
  circle w0.05: c0.6,-0.45 r0.025
  circle w0.05: c0.6,-0.6 r0.025
  circle w0.05: c0.45,-0.45 r0.025
  region: -0.6,0.6 -0.6,0.45 -0.45,0.45 -0.45,0.6
  region: -0.6,0.45 -0.6,0.6 -0.65,0.6 -0.65,0.45
  rectangle: -0.6,0.6 -0.45,0.65
  region: -0.45,0.6 -0.45,0.45 -0.4,0.45 -0.4,0.6
  region: -0.45,0.45 -0.6,0.45 -0.6,0.4 -0.45,0.4
  region: -0.075,0.6 -0.075,0.45 0.075,0.45 0.075,0.6
  region: -0.075,0.45 -0.075,0.6 -0.125,0.6 -0.125,0.45
  rectangle: -0.075,0.6 0.075,0.65
  region: 0.075,0.6 0.075,0.45 0.125,0.45 0.125,0.6
  region: 0.075,0.45 -0.075,0.45 -0.075,0.4 0.075,0.4
  region: 0.45,0.6 0.45,0.45 0.6,0.45 0.6,0.6
  region: 0.45,0.45 0.45,0.6 0.4,0.6 0.4,0.45
  rectangle: 0.45,0.6 0.6,0.65
  region: 0.6,0.6 0.6,0.45 0.65,0.45 0.65,0.6
  region: 0.6,0.45 0.45,0.45 0.45,0.4 0.6,0.4
  region: -0.6,0.075 -0.6,-0.075 -0.45,-0.075 -0.45,0.075
  region: -0.6,-0.075 -0.6,0.075 -0.65,0.075 -0.65,-0.075
  rectangle: -0.6,0.075 -0.45,0.125
  region: -0.45,0.075 -0.45,-0.075 -0.4,-0.075 -0.4,0.075
  region: -0.45,-0.075 -0.6,-0.075 -0.6,-0.125 -0.45,-0.125
  region: 0.45,0.075 0.45,-0.075 0.6,-0.075 0.6,0.075
  region: 0.45,-0.075 0.45,0.075 0.4,0.075 0.4,-0.075
  rectangle: 0.45,0.075 0.6,0.125
  region: 0.6,0.075 0.6,-0.075 0.65,-0.075 0.65,0.075
  region: 0.6,-0.075 0.45,-0.075 0.45,-0.125 0.6,-0.125
  region: -0.6,-0.45 -0.6,-0.6 -0.45,-0.6 -0.45,-0.45
  region: -0.6,-0.6 -0.6,-0.45 -0.65,-0.45 -0.65,-0.6
  rectangle: -0.6,-0.45 -0.45,-0.4
  region: -0.45,-0.45 -0.45,-0.6 -0.4,-0.6 -0.4,-0.45
  region: -0.45,-0.6 -0.6,-0.6 -0.6,-0.65 -0.45,-0.65
  region: -0.075,-0.45 -0.075,-0.6 0.075,-0.6 0.075,-0.45
  region: -0.075,-0.6 -0.075,-0.45 -0.125,-0.45 -0.125,-0.6
  rectangle: -0.075,-0.45 0.075,-0.4
  region: 0.075,-0.45 0.075,-0.6 0.125,-0.6 0.125,-0.45
  region: 0.075,-0.6 -0.075,-0.6 -0.075,-0.65 0.075,-0.65
  region: 0.45,-0.45 0.45,-0.6 0.6,-0.6 0.6,-0.45
  region: 0.45,-0.6 0.45,-0.45 0.4,-0.45 0.4,-0.6
  rectangle: 0.45,-0.45 0.6,-0.4
  region: 0.6,-0.45 0.6,-0.6 0.65,-0.6 0.65,-0.45
  region: 0.6,-0.6 0.45,-0.6 0.45,-0.65 0.6,-0.65
Mechanical 13:
  lines w0.1: -0.96,-0.96 -0.96,0.96 0.96,0.96 0.96,-0.96 -0.96,-0.96
Mechanical 15:
  lines w0.1: -0.5,0 0.5,0 ; 0,-0.5 0,0.5 ; -1.06,-1.06 -1.06,1.06 1.06,1.06 1.06,-1.06 -1.06,-1.06
3D body: height 0.68, standoff 0, extent -0.96,-0.96 0.96,0.96

## SMD50P3X3-1.95X1.95-9V [mm] "Micro SMD, 9-Leads, Body 1.95x1.95mm, Pitch 0.5mm, NSC Recommended"
height 0.68
pads (9):
  round 0.265 smd paste-0.132 mask+0.05: A1(-0.5,0.5) A2(0,0.5) A3(0.5,0.5) B1(-0.5,0) B2(0,0) B3(0.5,0) C1(-0.5,-0.5) C2(0,-0.5) C3(0.5,-0.5)
Top Overlay:
  circle w0.1: c-1.08,1.08 r0.05
Top Paste:
  circle w0.05: c-0.6,0.45 r0.025
  circle w0.05: c-0.45,0.6 r0.025
  circle w0.05: c-0.45,0.45 r0.025
  circle w0.05: c-0.6,0.6 r0.025
  circle w0.05: c-0.075,0.45 r0.025
  circle w0.05: c0.075,0.6 r0.025
  circle w0.05: c0.075,0.45 r0.025
  circle w0.05: c-0.075,0.6 r0.025
  circle w0.05: c0.45,0.45 r0.025
  circle w0.05: c0.6,0.6 r0.025
  circle w0.05: c0.6,0.45 r0.025
  circle w0.05: c0.45,0.6 r0.025
  circle w0.05: c-0.6,-0.075 r0.025
  circle w0.05: c-0.45,0.075 r0.025
  circle w0.05: c-0.45,-0.075 r0.025
  circle w0.05: c-0.6,0.075 r0.025
  circle w0.05: c-0.075,-0.075 r0.025
  circle w0.05: c0.075,0.075 r0.025
  circle w0.05: c0.075,-0.075 r0.025
  circle w0.05: c-0.075,0.075 r0.025
  circle w0.05: c0.45,-0.075 r0.025
  circle w0.05: c0.6,0.075 r0.025
  circle w0.05: c0.6,-0.075 r0.025
  circle w0.05: c0.45,0.075 r0.025
  circle w0.05: c-0.6,-0.6 r0.025
  circle w0.05: c-0.45,-0.45 r0.025
  circle w0.05: c-0.45,-0.6 r0.025
  circle w0.05: c-0.6,-0.45 r0.025
  circle w0.05: c-0.075,-0.6 r0.025
  circle w0.05: c0.075,-0.45 r0.025
  circle w0.05: c0.075,-0.6 r0.025
  circle w0.05: c-0.075,-0.45 r0.025
  circle w0.05: c0.45,-0.6 r0.025
  circle w0.05: c0.6,-0.45 r0.025
  circle w0.05: c0.6,-0.6 r0.025
  circle w0.05: c0.45,-0.45 r0.025
  region: -0.6,0.6 -0.6,0.45 -0.45,0.45 -0.45,0.6
  region: -0.6,0.45 -0.6,0.6 -0.65,0.6 -0.65,0.45
  rectangle: -0.6,0.6 -0.45,0.65
  region: -0.45,0.6 -0.45,0.45 -0.4,0.45 -0.4,0.6
  region: -0.45,0.45 -0.6,0.45 -0.6,0.4 -0.45,0.4
  region: -0.075,0.6 -0.075,0.45 0.075,0.45 0.075,0.6
  region: -0.075,0.45 -0.075,0.6 -0.125,0.6 -0.125,0.45
  rectangle: -0.075,0.6 0.075,0.65
  region: 0.075,0.6 0.075,0.45 0.125,0.45 0.125,0.6
  region: 0.075,0.45 -0.075,0.45 -0.075,0.4 0.075,0.4
  region: 0.45,0.6 0.45,0.45 0.6,0.45 0.6,0.6
  region: 0.45,0.45 0.45,0.6 0.4,0.6 0.4,0.45
  rectangle: 0.45,0.6 0.6,0.65
  region: 0.6,0.6 0.6,0.45 0.65,0.45 0.65,0.6
  region: 0.6,0.45 0.45,0.45 0.45,0.4 0.6,0.4
  region: -0.6,0.075 -0.6,-0.075 -0.45,-0.075 -0.45,0.075
  region: -0.6,-0.075 -0.6,0.075 -0.65,0.075 -0.65,-0.075
  rectangle: -0.6,0.075 -0.45,0.125
  region: -0.45,0.075 -0.45,-0.075 -0.4,-0.075 -0.4,0.075
  region: -0.45,-0.075 -0.6,-0.075 -0.6,-0.125 -0.45,-0.125
  region: -0.075,0.075 -0.075,-0.075 0.075,-0.075 0.075,0.075
  region: -0.075,-0.075 -0.075,0.075 -0.125,0.075 -0.125,-0.075
  rectangle: -0.075,0.075 0.075,0.125
  region: 0.075,0.075 0.075,-0.075 0.125,-0.075 0.125,0.075
  region: 0.075,-0.075 -0.075,-0.075 -0.075,-0.125 0.075,-0.125
  region: 0.45,0.075 0.45,-0.075 0.6,-0.075 0.6,0.075
  region: 0.45,-0.075 0.45,0.075 0.4,0.075 0.4,-0.075
  rectangle: 0.45,0.075 0.6,0.125
  region: 0.6,0.075 0.6,-0.075 0.65,-0.075 0.65,0.075
  region: 0.6,-0.075 0.45,-0.075 0.45,-0.125 0.6,-0.125
  region: -0.6,-0.45 -0.6,-0.6 -0.45,-0.6 -0.45,-0.45
  region: -0.6,-0.6 -0.6,-0.45 -0.65,-0.45 -0.65,-0.6
  rectangle: -0.6,-0.45 -0.45,-0.4
  region: -0.45,-0.45 -0.45,-0.6 -0.4,-0.6 -0.4,-0.45
  region: -0.45,-0.6 -0.6,-0.6 -0.6,-0.65 -0.45,-0.65
  region: -0.075,-0.45 -0.075,-0.6 0.075,-0.6 0.075,-0.45
  region: -0.075,-0.6 -0.075,-0.45 -0.125,-0.45 -0.125,-0.6
  rectangle: -0.075,-0.45 0.075,-0.4
  region: 0.075,-0.45 0.075,-0.6 0.125,-0.6 0.125,-0.45
  region: 0.075,-0.6 -0.075,-0.6 -0.075,-0.65 0.075,-0.65
  region: 0.45,-0.45 0.45,-0.6 0.6,-0.6 0.6,-0.45
  region: 0.45,-0.6 0.45,-0.45 0.4,-0.45 0.4,-0.6
  rectangle: 0.45,-0.45 0.6,-0.4
  region: 0.6,-0.45 0.6,-0.6 0.65,-0.6 0.65,-0.45
  region: 0.6,-0.6 0.45,-0.6 0.45,-0.65 0.6,-0.65
Mechanical 13:
  lines w0.1: -0.975,-0.975 -0.975,0.975 0.975,0.975 0.975,-0.975 -0.975,-0.975
Mechanical 15:
  lines w0.1: -0.5,0 0.5,0 ; 0,-0.5 0,0.5 ; -1.075,-1.075 -1.075,1.075 1.075,1.075 1.075,-1.075 -1.075,-1.075
3D body: height 0.68, standoff 0, extent -0.975,-0.975 0.975,0.975

## SMD50P3X3_1.52X1.52-8V [mm] "Micro SMD, 8-Leads, Body 1.52x1.52mm, Pitch 0.5mm, NSC Recommended"
height 0.68
pads (8):
  round 0.265 smd paste-0.132 mask+0.05: A1(-0.5,0.5) A2(0,0.5) A3(0.5,0.5) B1(-0.5,0) B3(0.5,0) C1(-0.5,-0.5) C2(0,-0.5) C3(0.5,-0.5)
Top Overlay:
  circle w0.1: c-0.865,0.865 r0.05
Top Paste:
  circle w0.05: c-0.075,-0.6 r0.025
  circle w0.05: c0.075,-0.45 r0.025
  circle w0.05: c-0.075,-0.45 r0.025
  circle w0.05: c0.075,-0.6 r0.025
  circle w0.05: c0.45,-0.075 r0.025
  circle w0.05: c0.6,0.075 r0.025
  circle w0.05: c0.45,0.075 r0.025
  circle w0.05: c0.6,-0.075 r0.025
  circle w0.05: c-0.6,-0.075 r0.025
  circle w0.05: c-0.45,0.075 r0.025
  circle w0.05: c-0.6,0.075 r0.025
  circle w0.05: c-0.45,-0.075 r0.025
  circle w0.05: c-0.075,0.45 r0.025
  circle w0.05: c0.075,0.6 r0.025
  circle w0.05: c-0.075,0.6 r0.025
  circle w0.05: c0.075,0.45 r0.025
  circle w0.05: c-0.6,0.45 r0.025
  circle w0.05: c-0.45,0.6 r0.025
  circle w0.05: c-0.6,0.6 r0.025
  circle w0.05: c-0.45,0.45 r0.025
  circle w0.05: c0.45,0.45 r0.025
  circle w0.05: c0.6,0.6 r0.025
  circle w0.05: c0.45,0.6 r0.025
  circle w0.05: c0.6,0.45 r0.025
  circle w0.05: c-0.6,-0.6 r0.025
  circle w0.05: c-0.45,-0.45 r0.025
  circle w0.05: c-0.6,-0.45 r0.025
  circle w0.05: c-0.45,-0.6 r0.025
  circle w0.05: c0.45,-0.6 r0.025
  circle w0.05: c0.6,-0.45 r0.025
  circle w0.05: c0.45,-0.45 r0.025
  circle w0.05: c0.6,-0.6 r0.025
  region: 0.075,-0.45 0.075,-0.6 0.125,-0.6 0.125,-0.45
  rectangle: -0.075,-0.45 0.075,-0.4
  region: -0.075,-0.6 -0.075,-0.45 -0.125,-0.45 -0.125,-0.6
  region: 0.075,-0.6 -0.075,-0.6 -0.075,-0.65 0.075,-0.65
  rectangle: -0.075,-0.6 0.075,-0.45
  region: 0.6,0.075 0.6,-0.075 0.65,-0.075 0.65,0.075
  rectangle: 0.45,0.075 0.6,0.125
  region: 0.45,-0.075 0.45,0.075 0.4,0.075 0.4,-0.075
  region: 0.6,-0.075 0.45,-0.075 0.45,-0.125 0.6,-0.125
  rectangle: 0.45,-0.075 0.6,0.075
  region: -0.45,0.075 -0.45,-0.075 -0.4,-0.075 -0.4,0.075
  rectangle: -0.6,0.075 -0.45,0.125
  region: -0.6,-0.075 -0.6,0.075 -0.65,0.075 -0.65,-0.075
  region: -0.45,-0.075 -0.6,-0.075 -0.6,-0.125 -0.45,-0.125
  rectangle: -0.6,-0.075 -0.45,0.075
  region: 0.075,0.6 0.075,0.45 0.125,0.45 0.125,0.6
  rectangle: -0.075,0.6 0.075,0.65
  region: -0.075,0.45 -0.075,0.6 -0.125,0.6 -0.125,0.45
  region: 0.075,0.45 -0.075,0.45 -0.075,0.4 0.075,0.4
  rectangle: -0.075,0.45 0.075,0.6
  region: -0.45,0.6 -0.45,0.45 -0.4,0.45 -0.4,0.6
  rectangle: -0.6,0.6 -0.45,0.65
  region: -0.6,0.45 -0.6,0.6 -0.65,0.6 -0.65,0.45
  region: -0.45,0.45 -0.6,0.45 -0.6,0.4 -0.45,0.4
  rectangle: -0.6,0.45 -0.45,0.6
  region: 0.6,0.6 0.6,0.45 0.65,0.45 0.65,0.6
  rectangle: 0.45,0.6 0.6,0.65
  region: 0.45,0.45 0.45,0.6 0.4,0.6 0.4,0.45
  region: 0.6,0.45 0.45,0.45 0.45,0.4 0.6,0.4
  rectangle: 0.45,0.45 0.6,0.6
  region: -0.45,-0.45 -0.45,-0.6 -0.4,-0.6 -0.4,-0.45
  rectangle: -0.6,-0.45 -0.45,-0.4
  region: -0.6,-0.6 -0.6,-0.45 -0.65,-0.45 -0.65,-0.6
  region: -0.45,-0.6 -0.6,-0.6 -0.6,-0.65 -0.45,-0.65
  rectangle: -0.6,-0.6 -0.45,-0.45
  region: 0.6,-0.45 0.6,-0.6 0.65,-0.6 0.65,-0.45
  rectangle: 0.45,-0.45 0.6,-0.4
  region: 0.45,-0.6 0.45,-0.45 0.4,-0.45 0.4,-0.6
  region: 0.6,-0.6 0.45,-0.6 0.45,-0.65 0.6,-0.65
  rectangle: 0.45,-0.6 0.6,-0.45
Mechanical 13:
  lines w0.1: -0.76,-0.76 -0.76,0.76 0.76,0.76 0.76,-0.76 -0.76,-0.76
Mechanical 15:
  lines w0.1: -0.5,0 0.5,0 ; 0,-0.5 0,0.5 ; -0.86,-0.86 -0.86,0.86 0.86,0.86 0.86,-0.86 -0.86,-0.86
3D body: height 0.68, standoff 0, extent -0.759,-0.759 0.759,0.759

## SMD50P3X4-1.9X2.07-10V [mm] "Micro SMD, 10-Leads, Body 2.07x1.9mm, Pitch 0.5mm, NSC Recommended"
height 0.68
pads (10):
  round 0.265 smd paste-0.132 mask+0.05: A1(-0.5,0.75) A2(0,0.75) A3(0.5,0.75) B1(-0.5,0.25) B3(0.5,0.25) C1(-0.5,-0.25) C3(0.5,-0.25) D1(-0.5,-0.75) D2(0,-0.75) D3(0.5,-0.75)
Top Overlay:
  circle w0.1: c-1.055,1.14 r0.05
Top Paste:
  circle w0.05: c-0.6,0.7 r0.025
  circle w0.05: c-0.45,0.85 r0.025
  circle w0.05: c-0.45,0.7 r0.025
  circle w0.05: c-0.6,0.85 r0.025
  circle w0.05: c-0.075,0.7 r0.025
  circle w0.05: c0.075,0.85 r0.025
  circle w0.05: c0.075,0.7 r0.025
  circle w0.05: c-0.075,0.85 r0.025
  circle w0.05: c0.45,0.7 r0.025
  circle w0.05: c0.6,0.85 r0.025
  circle w0.05: c0.6,0.7 r0.025
  circle w0.05: c0.45,0.85 r0.025
  circle w0.05: c-0.6,0.175 r0.025
  circle w0.05: c-0.45,0.325 r0.025
  circle w0.05: c-0.45,0.175 r0.025
  circle w0.05: c-0.6,0.325 r0.025
  circle w0.05: c0.45,0.175 r0.025
  circle w0.05: c0.6,0.325 r0.025
  circle w0.05: c0.6,0.175 r0.025
  circle w0.05: c0.45,0.325 r0.025
  circle w0.05: c-0.6,-0.325 r0.025
  circle w0.05: c-0.45,-0.175 r0.025
  circle w0.05: c-0.45,-0.325 r0.025
  circle w0.05: c-0.6,-0.175 r0.025
  circle w0.05: c0.45,-0.325 r0.025
  circle w0.05: c0.6,-0.175 r0.025
  circle w0.05: c0.6,-0.325 r0.025
  circle w0.05: c0.45,-0.175 r0.025
  circle w0.05: c-0.6,-0.85 r0.025
  circle w0.05: c-0.45,-0.7 r0.025
  circle w0.05: c-0.45,-0.85 r0.025
  circle w0.05: c-0.6,-0.7 r0.025
  circle w0.05: c-0.075,-0.85 r0.025
  circle w0.05: c0.075,-0.7 r0.025
  circle w0.05: c0.075,-0.85 r0.025
  circle w0.05: c-0.075,-0.7 r0.025
  circle w0.05: c0.45,-0.85 r0.025
  circle w0.05: c0.6,-0.7 r0.025
  circle w0.05: c0.6,-0.85 r0.025
  circle w0.05: c0.45,-0.7 r0.025
  region: -0.6,0.85 -0.6,0.7 -0.45,0.7 -0.45,0.85
  region: -0.6,0.7 -0.6,0.85 -0.65,0.85 -0.65,0.7
  rectangle: -0.6,0.85 -0.45,0.9
  region: -0.45,0.85 -0.45,0.7 -0.4,0.7 -0.4,0.85
  region: -0.45,0.7 -0.6,0.7 -0.6,0.65 -0.45,0.65
  region: -0.075,0.85 -0.075,0.7 0.075,0.7 0.075,0.85
  region: -0.075,0.7 -0.075,0.85 -0.125,0.85 -0.125,0.7
  rectangle: -0.075,0.85 0.075,0.9
  region: 0.075,0.85 0.075,0.7 0.125,0.7 0.125,0.85
  region: 0.075,0.7 -0.075,0.7 -0.075,0.65 0.075,0.65
  region: 0.45,0.85 0.45,0.7 0.6,0.7 0.6,0.85
  region: 0.45,0.7 0.45,0.85 0.4,0.85 0.4,0.7
  rectangle: 0.45,0.85 0.6,0.9
  region: 0.6,0.85 0.6,0.7 0.65,0.7 0.65,0.85
  region: 0.6,0.7 0.45,0.7 0.45,0.65 0.6,0.65
  region: -0.6,0.325 -0.6,0.175 -0.45,0.175 -0.45,0.325
  region: -0.6,0.175 -0.6,0.325 -0.65,0.325 -0.65,0.175
  rectangle: -0.6,0.325 -0.45,0.375
  region: -0.45,0.325 -0.45,0.175 -0.4,0.175 -0.4,0.325
  region: -0.45,0.175 -0.6,0.175 -0.6,0.125 -0.45,0.125
  region: 0.45,0.325 0.45,0.175 0.6,0.175 0.6,0.325
  region: 0.45,0.175 0.45,0.325 0.4,0.325 0.4,0.175
  rectangle: 0.45,0.325 0.6,0.375
  region: 0.6,0.325 0.6,0.175 0.65,0.175 0.65,0.325
  region: 0.6,0.175 0.45,0.175 0.45,0.125 0.6,0.125
  region: -0.6,-0.175 -0.6,-0.325 -0.45,-0.325 -0.45,-0.175
  region: -0.6,-0.325 -0.6,-0.175 -0.65,-0.175 -0.65,-0.325
  rectangle: -0.6,-0.175 -0.45,-0.125
  region: -0.45,-0.175 -0.45,-0.325 -0.4,-0.325 -0.4,-0.175
  region: -0.45,-0.325 -0.6,-0.325 -0.6,-0.375 -0.45,-0.375
  region: 0.45,-0.175 0.45,-0.325 0.6,-0.325 0.6,-0.175
  region: 0.45,-0.325 0.45,-0.175 0.4,-0.175 0.4,-0.325
  rectangle: 0.45,-0.175 0.6,-0.125
  region: 0.6,-0.175 0.6,-0.325 0.65,-0.325 0.65,-0.175
  region: 0.6,-0.325 0.45,-0.325 0.45,-0.375 0.6,-0.375
  region: -0.6,-0.7 -0.6,-0.85 -0.45,-0.85 -0.45,-0.7
  region: -0.6,-0.85 -0.6,-0.7 -0.65,-0.7 -0.65,-0.85
  rectangle: -0.6,-0.7 -0.45,-0.65
  region: -0.45,-0.7 -0.45,-0.85 -0.4,-0.85 -0.4,-0.7
  region: -0.45,-0.85 -0.6,-0.85 -0.6,-0.9 -0.45,-0.9
  region: -0.075,-0.7 -0.075,-0.85 0.075,-0.85 0.075,-0.7
  region: -0.075,-0.85 -0.075,-0.7 -0.125,-0.7 -0.125,-0.85
  rectangle: -0.075,-0.7 0.075,-0.65
  region: 0.075,-0.7 0.075,-0.85 0.125,-0.85 0.125,-0.7
  region: 0.075,-0.85 -0.075,-0.85 -0.075,-0.9 0.075,-0.9
  region: 0.45,-0.7 0.45,-0.85 0.6,-0.85 0.6,-0.7
  region: 0.45,-0.85 0.45,-0.7 0.4,-0.7 0.4,-0.85
  rectangle: 0.45,-0.7 0.6,-0.65
  region: 0.6,-0.7 0.6,-0.85 0.65,-0.85 0.65,-0.7
  region: 0.6,-0.85 0.45,-0.85 0.45,-0.9 0.6,-0.9
Mechanical 13:
  lines w0.1: -0.95,-1.035 -0.95,1.035 0.95,1.035 0.95,-1.035 -0.95,-1.035
Mechanical 15:
  lines w0.1: -0.5,0 0.5,0 ; 0,-0.5 0,0.5 ; -1.05,-1.135 -1.05,1.135 1.05,1.135 1.05,-1.135 -1.05,-1.135
3D body: height 0.68, standoff 0, extent -0.95,-1.04 0.95,1.04

## SMD50P3X4-1.47X1.97-12V [mm] "Micro SMD, 12-Leads, Body 1.97x1.47mm, Pitch 0.5mm, NSC Recommended"
height 0.68
pads (12):
  round 0.265 smd paste-0.132 mask+0.05: A1(-0.5,0.75) A2(0,0.75) A3(0.5,0.75) B1(-0.5,0.25) B2(0,0.25) B3(0.5,0.25) C1(-0.5,-0.25) C2(0,-0.25) C3(0.5,-0.25) D1(-0.5,-0.75) D2(0,-0.75) D3(0.5,-0.75)
Top Overlay:
  circle w0.1: c-0.84,1.09 r0.05
Top Paste:
  circle w0.05: c-0.6,0.7 r0.025
  circle w0.05: c-0.45,0.85 r0.025
  circle w0.05: c-0.6,0.85 r0.025
  circle w0.05: c-0.45,0.7 r0.025
  circle w0.05: c0.45,0.85 r0.025
  circle w0.05: c0.6,0.7 r0.025
  circle w0.05: c0.6,0.85 r0.025
  circle w0.05: c0.45,0.7 r0.025
  circle w0.05: c0.6,-0.7 r0.025
  circle w0.05: c0.45,-0.85 r0.025
  circle w0.05: c0.6,-0.85 r0.025
  circle w0.05: c0.45,-0.7 r0.025
  circle w0.05: c-0.45,-0.85 r0.025
  circle w0.05: c-0.6,-0.7 r0.025
  circle w0.05: c-0.6,-0.85 r0.025
  circle w0.05: c-0.45,-0.7 r0.025
  circle w0.05: c-0.075,0.7 r0.025
  circle w0.05: c0.075,0.85 r0.025
  circle w0.05: c0.075,0.7 r0.025
  circle w0.05: c-0.075,0.85 r0.025
  circle w0.05: c-0.45,0.175 r0.025
  circle w0.05: c-0.6,0.325 r0.025
  circle w0.05: c-0.45,0.325 r0.025
  circle w0.05: c-0.6,0.175 r0.025
  circle w0.05: c-0.45,-0.325 r0.025
  circle w0.05: c-0.6,-0.175 r0.025
  circle w0.05: c-0.45,-0.175 r0.025
  circle w0.05: c-0.6,-0.325 r0.025
  circle w0.05: c0.075,-0.7 r0.025
  circle w0.05: c-0.075,-0.85 r0.025
  circle w0.05: c-0.075,-0.7 r0.025
  circle w0.05: c0.075,-0.85 r0.025
  circle w0.05: c0.45,-0.175 r0.025
  circle w0.05: c0.6,-0.325 r0.025
  circle w0.05: c0.45,-0.325 r0.025
  circle w0.05: c0.6,-0.175 r0.025
  circle w0.05: c0.45,0.325 r0.025
  circle w0.05: c0.6,0.175 r0.025
  circle w0.05: c0.45,0.175 r0.025
  circle w0.05: c0.6,0.325 r0.025
  circle w0.05: c0.075,0.175 r0.025
  circle w0.05: c-0.075,0.325 r0.025
  circle w0.05: c-0.075,0.175 r0.025
  circle w0.05: c0.075,0.325 r0.025
  circle w0.05: c0.075,-0.325 r0.025
  circle w0.05: c-0.075,-0.175 r0.025
  circle w0.05: c-0.075,-0.325 r0.025
  circle w0.05: c0.075,-0.175 r0.025
  region: -0.45,0.85 -0.45,0.7 -0.4,0.7 -0.4,0.85
  rectangle: -0.6,0.85 -0.45,0.9
  region: -0.6,0.7 -0.6,0.85 -0.65,0.85 -0.65,0.7
  region: -0.45,0.7 -0.6,0.7 -0.6,0.65 -0.45,0.65
  rectangle: -0.6,0.7 -0.45,0.85
  region: 0.6,0.7 0.45,0.7 0.45,0.65 0.6,0.65
  region: 0.6,0.85 0.6,0.7 0.65,0.7 0.65,0.85
  rectangle: 0.45,0.85 0.6,0.9
  region: 0.45,0.7 0.45,0.85 0.4,0.85 0.4,0.7
  region: 0.45,0.85 0.45,0.7 0.6,0.7 0.6,0.85
  region: 0.45,-0.85 0.45,-0.7 0.4,-0.7 0.4,-0.85
  region: 0.6,-0.85 0.45,-0.85 0.45,-0.9 0.6,-0.9
  region: 0.6,-0.7 0.6,-0.85 0.65,-0.85 0.65,-0.7
  rectangle: 0.45,-0.7 0.6,-0.65
  region: 0.6,-0.7 0.45,-0.7 0.45,-0.85 0.6,-0.85
  rectangle: -0.6,-0.7 -0.45,-0.65
  region: -0.6,-0.85 -0.6,-0.7 -0.65,-0.7 -0.65,-0.85
  region: -0.45,-0.85 -0.6,-0.85 -0.6,-0.9 -0.45,-0.9
  region: -0.45,-0.7 -0.45,-0.85 -0.4,-0.85 -0.4,-0.7
  region: -0.45,-0.85 -0.45,-0.7 -0.6,-0.7 -0.6,-0.85
  region: -0.075,0.85 -0.075,0.7 0.075,0.7 0.075,0.85
  region: -0.075,0.7 -0.075,0.85 -0.125,0.85 -0.125,0.7
  rectangle: -0.075,0.85 0.075,0.9
  region: 0.075,0.85 0.075,0.7 0.125,0.7 0.125,0.85
  region: 0.075,0.7 -0.075,0.7 -0.075,0.65 0.075,0.65
  rectangle: -0.6,0.175 -0.45,0.325
  region: -0.45,0.175 -0.6,0.175 -0.6,0.125 -0.45,0.125
  region: -0.6,0.175 -0.6,0.325 -0.65,0.325 -0.65,0.175
  rectangle: -0.6,0.325 -0.45,0.375
  region: -0.45,0.325 -0.45,0.175 -0.4,0.175 -0.4,0.325
  rectangle: -0.6,-0.325 -0.45,-0.175
  region: -0.45,-0.325 -0.6,-0.325 -0.6,-0.375 -0.45,-0.375
  region: -0.6,-0.325 -0.6,-0.175 -0.65,-0.175 -0.65,-0.325
  rectangle: -0.6,-0.175 -0.45,-0.125
  region: -0.45,-0.175 -0.45,-0.325 -0.4,-0.325 -0.4,-0.175
  region: 0.075,-0.85 0.075,-0.7 -0.075,-0.7 -0.075,-0.85
  region: 0.075,-0.7 0.075,-0.85 0.125,-0.85 0.125,-0.7
  region: 0.075,-0.85 -0.075,-0.85 -0.075,-0.9 0.075,-0.9
  region: -0.075,-0.85 -0.075,-0.7 -0.125,-0.7 -0.125,-0.85
  rectangle: -0.075,-0.7 0.075,-0.65
  region: 0.6,-0.175 0.45,-0.175 0.45,-0.325 0.6,-0.325
  rectangle: 0.45,-0.175 0.6,-0.125
  region: 0.6,-0.175 0.6,-0.325 0.65,-0.325 0.65,-0.175
  region: 0.6,-0.325 0.45,-0.325 0.45,-0.375 0.6,-0.375
  region: 0.45,-0.325 0.45,-0.175 0.4,-0.175 0.4,-0.325
  region: 0.6,0.325 0.45,0.325 0.45,0.175 0.6,0.175
  rectangle: 0.45,0.325 0.6,0.375
  region: 0.6,0.325 0.6,0.175 0.65,0.175 0.65,0.325
  region: 0.6,0.175 0.45,0.175 0.45,0.125 0.6,0.125
  region: 0.45,0.175 0.45,0.325 0.4,0.325 0.4,0.175
  region: -0.075,0.325 -0.075,0.175 0.075,0.175 0.075,0.325
  region: 0.125,0.175 0.125,0.325 0.075,0.325 0.075,0.175
  region: 0.075,0.375 -0.075,0.375 -0.075,0.325 0.075,0.325
  region: -0.125,0.325 -0.125,0.175 -0.075,0.175 -0.075,0.325
  rectangle: -0.075,0.125 0.075,0.175
  region: -0.075,-0.175 -0.075,-0.325 0.075,-0.325 0.075,-0.175
  region: 0.125,-0.325 0.125,-0.175 0.075,-0.175 0.075,-0.325
  region: 0.075,-0.125 -0.075,-0.125 -0.075,-0.175 0.075,-0.175
  region: -0.125,-0.175 -0.125,-0.325 -0.075,-0.325 -0.075,-0.175
  rectangle: -0.075,-0.375 0.075,-0.325
Mechanical 13:
  lines w0.1: -0.735,-0.985 0.735,-0.985 0.735,0.985 -0.735,0.985 -0.735,-0.985
Mechanical 15:
  lines w0.1: -0.5,0 0.5,0 ; 0,-0.5 0,0.5 ; -0.835,-1.085 0.835,-1.085 0.835,1.085 -0.835,1.085 -0.835,-1.085
3D body: height 0.68, standoff 0, extent -0.734,-0.984 0.734,0.984